# Altium schematic symbol library Diode.SchLib: 5 symbols
Pins are listed as number, name and electrical type; pins without a type are passive.

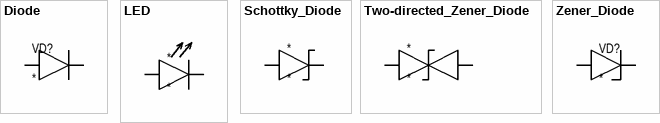
[diagram p0: symbols Diode to Zener_Diode]

## Diode
designator VD?
Mfr.Part: 1N4148W-7-F; Manufacturer: Diodes; Value: 1N4148W
pins: A Anode, K Kathode

## LED
designator *
pins: A Anode, K Kathode

## Schottky_Diode
designator *
pins: A Anode, K Kathode

## Two-directed_Zener_Diode
designator *
pins: 1, 2

## Zener_Diode
designator VD?
pins: A Anode, K Kathode